# Altium footprint library 80-BabyCarBatControl_PCB.PcbLib: 30 footprints (part 2 of 2)
Each footprint in its own frame and in the unit in brackets; x right, y up, seen from the top. Pads: shape width x height; smd on the part's side, far side on the other; paste and mask are expansions set on the pad; w line width, h text height; cw(c..) or ccw(c..) is an arc to the next point about the centre after c.
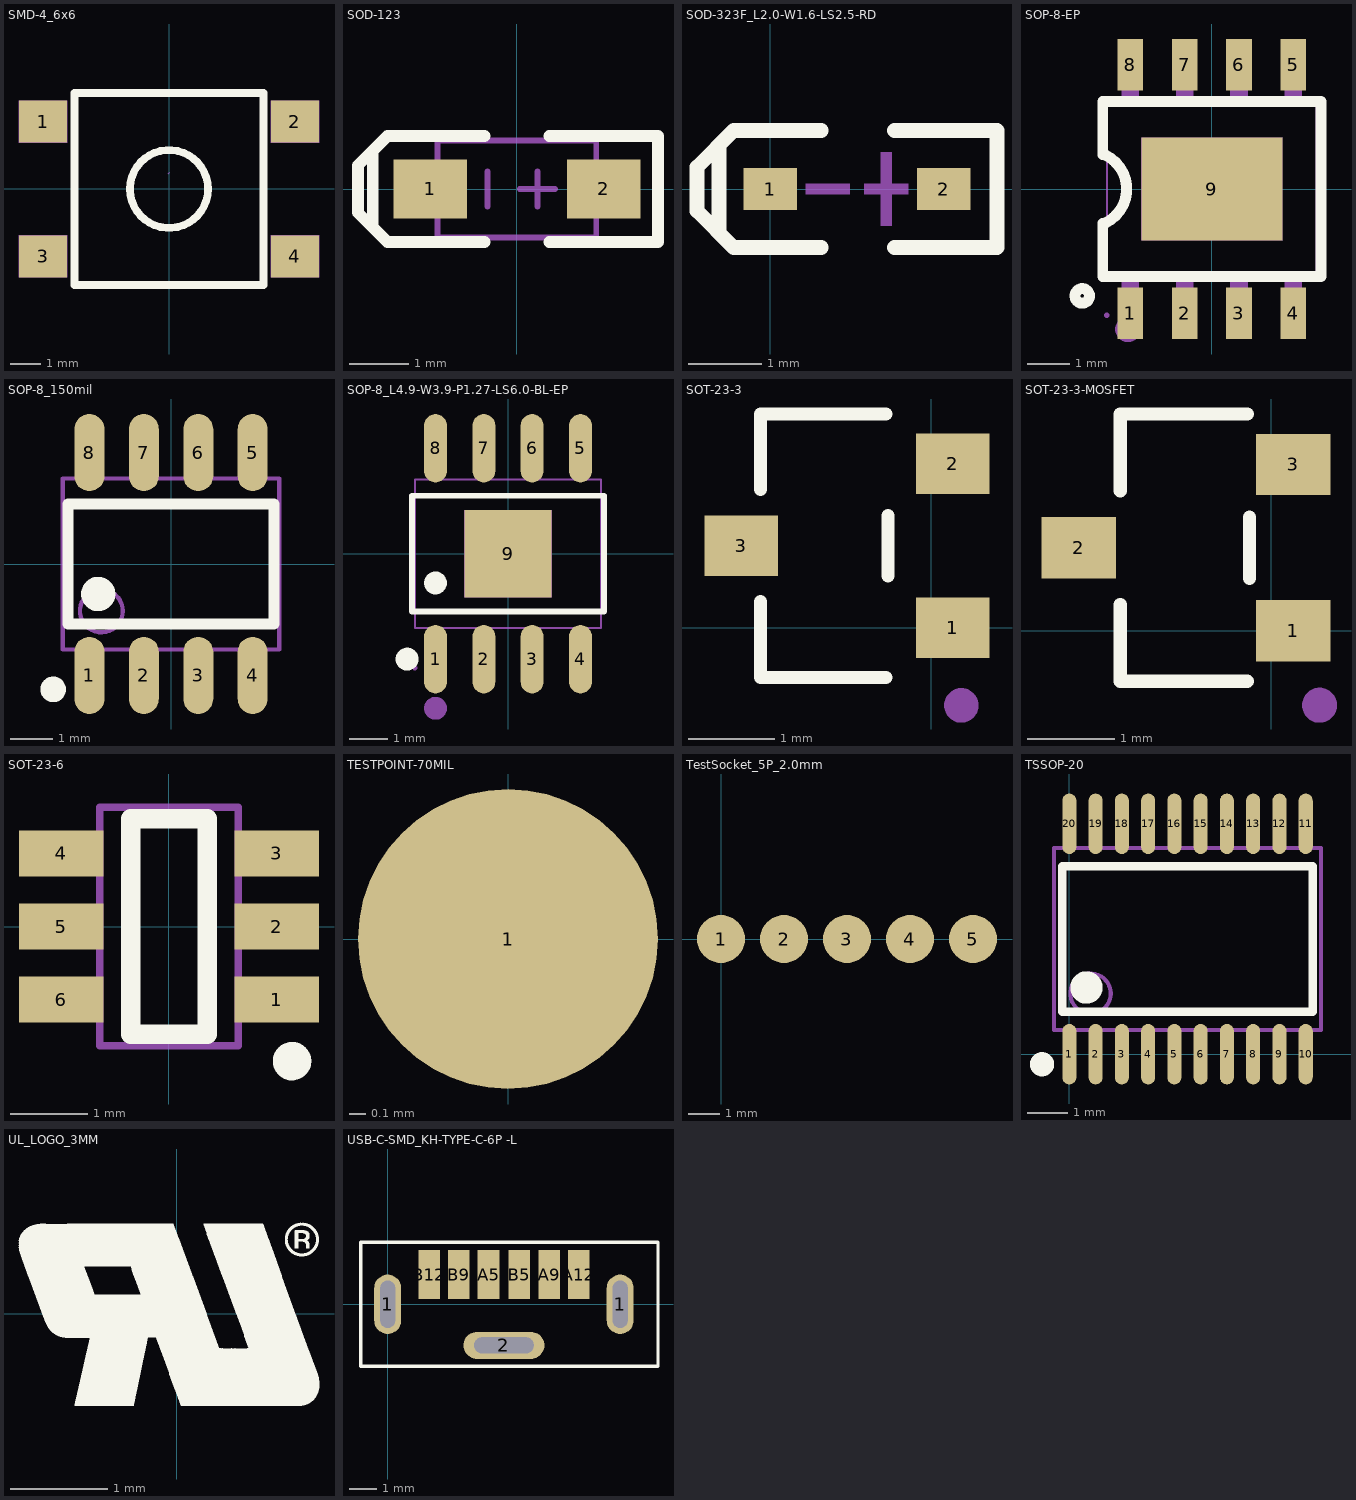
[diagram p1: the footprints below, top view; thin cyan lines are the x and y axes]

## SMD-4_6x6 [mm]
pads (4):
  rect 1.6x1.4 smd: 1(-4.2,2.249) 2(4.2,2.249) 3(-4.2,-2.249) 4(4.2,-2.249)
Top Overlay:
  circle w0.254: c0,0 r1.3
  lines w0.254: -3.15,-3.2 -3.15,3.2 3.15,3.2 3.15,-3.2 -3.15,-3.2
Mechanical 5:
  region: 3.4,-1.549 5,-1.549 5,-2.949 3.4,-2.949
  region: -5,-1.549 -3.4,-1.549 -3.4,-2.949 -5,-2.949
  region: 3.4,2.949 5,2.949 5,1.549 3.4,1.549
  region: -5,2.949 -3.4,2.949 -3.4,1.549 -5,1.549
Mechanical 15:
  lines w0.003: -0.026,0.502 0.025,0.553
3D body "SMD6X6.stp": height 5, standoff 0, extent -4.25,-3.3 4.25,3.3

## SOD-123 [mm]
pads (2):
  rect 1.25x1 smd: 1(-1.475,0) 2(1.475,0)
Top Overlay:
  lines w0.2: -2.45,-0.65 -2.45,0.65 ; -0.55,-0.9 -2.2,-0.9 -2.7,-0.4 -2.7,0.4 -2.2,0.9 -0.55,0.9 ; 0.55,-0.9 2.4,-0.9 2.4,0.9 0.55,0.9
Mechanical 13:
  lines w0.1: -1.35,-0.825 1.35,-0.825 1.35,0.825 -1.35,0.825 -1.35,-0.825
Mechanical 15:
  lines w0.1: -0.5,-0.3 -0.5,0.3 ; 0.05,0 0.65,0 ; 0.35,-0.3 0.35,0.3
3D body "SOD123.STEP": height 1.35, standoff 0, extent -1.85,-0.775 1.85,0.775

## SOD-323F_L2.0-W1.6-LS2.5-RD [mm]
pads (2):
  rect 0.73x0.58 smd: 1(0,0) 2(2.37,0)
Top Overlay:
  lines w0.2: -0.7,-0.6 -0.7,0.6 ; 0.7,-0.8 -0.5,-0.8 -1,-0.3 -1,0.3 -0.5,0.8 0.7,0.8 ; 1.7,-0.8 3.1,-0.8 3.1,0.8 1.7,0.8
Mechanical 15:
  region: 0.485,0.075 0.485,-0.075 1.085,-0.075 1.085,0.075
  region: 1.885,0.075 1.885,-0.075 1.285,-0.075 1.285,0.075
  region: 1.66,0.5 1.66,-0.5 1.51,-0.5 1.51,0.5
3D body "User Library-SOD-323F.STEP": height 0.79, standoff -0.08, extent -0.165,-0.686 2.535,0.664

## SOP-8-EP [mm]
pads (9):
  rect 0.6x1.2 smd: 1(-1.905,-2.908) 2(-0.635,-2.908) 3(0.635,-2.908) 4(1.905,-2.908) 5(1.905,2.908) 6(0.635,2.908) 7(-0.635,2.908) 8(-1.905,2.908)
  rect 3.3x2.4 smd: 9(0,0)
Top Overlay:
  circle w0.254: c-3.03,-2.5 r0.17
  lines w0.254: -2.55,-0.8 -2.55,-2.05 2.55,-2.05 2.55,2.05 -2.55,2.05 -2.55,0.8 ; -2.5,-0.8 ccw(c-2.875,0) -2.5,0.8
Mechanical 6:
  circle w0.3: c-1.96,-3.28 r0.15
Mechanical 15:
  region: -2.105,1.94 -2.105,2.31 -1.705,2.31 -1.705,1.94
  region: -2.105,2.3 -2.105,2.95 -1.705,2.95 -1.705,2.3
  region: -0.835,1.94 -0.835,2.31 -0.435,2.31 -0.435,1.94
  region: -0.835,2.3 -0.835,2.95 -0.435,2.95 -0.435,2.3
  region: 0.435,1.94 0.435,2.31 0.835,2.31 0.835,1.94
  region: 0.435,2.3 0.435,2.95 0.835,2.95 0.835,2.3
  region: 1.705,1.94 1.705,2.31 2.105,2.31 2.105,1.94
  region: 1.705,2.3 1.705,2.95 2.105,2.95 2.105,2.3
  region: -2.105,-2.31 -2.105,-1.94 -1.705,-1.94 -1.705,-2.31
  region: -2.105,-2.95 -2.105,-2.3 -1.705,-2.3 -1.705,-2.95
  region: -0.835,-2.31 -0.835,-1.94 -0.435,-1.94 -0.435,-2.31
  region: -0.835,-2.95 -0.835,-2.3 -0.435,-2.3 -0.435,-2.95
  region: 0.435,-2.31 0.435,-1.94 0.835,-1.94 0.835,-2.31
  region: 0.435,-2.95 0.435,-2.3 0.835,-2.3 0.835,-2.95
  region: 1.705,-2.31 1.705,-1.94 2.105,-1.94 2.105,-2.31
  region: 1.705,-2.95 1.705,-2.3 2.105,-2.3 2.105,-2.95
  region: 1.65,-1.2 -1.65,-1.2 -1.65,1.2 1.65,1.2
  region: -2.394,-2.95 -2.394,-2.925 -2.429,-2.89 -2.479,-2.89 -2.514,-2.925 -2.514,-2.95 -2.514,-2.975 -2.479,-3.01 -2.429,-3.01 -2.394,-2.975
  lines w0.051: -2.45,-1.95 2.45,-1.95 2.45,1.95 -2.45,1.95 -2.45,-1.95
3D body "User Library-SOIC-8-150.STEP": height 1.75, standoff 0, extent -2.5,-3.1 2.5,3.1

## SOP-8_150mil [mm]
pads (8):
  oval 0.7x1.8 smd: 1(-1.905,-2.6) 2(-0.635,-2.6) 3(0.635,-2.6) 4(1.905,-2.6) 5(1.905,2.6) 6(0.635,2.6) 7(-0.635,2.6) 8(-1.905,2.6)
Top Overlay:
  circle w0.3: c-2.75,-2.925 r0.15
  circle w0.4: c-1.7,-0.7 r0.2
  lines w0.254: -2.4,-1.4 2.4,-1.4 2.4,1.4 -2.4,1.4 -2.4,-1.4
Mechanical 13:
  circle w0.1: c-1.625,-1.095 r0.5
  lines w0.1: -2.525,-1.995 2.525,-1.995 2.525,1.995 -2.525,1.995 -2.525,-1.995
3D body "User Library-SOIC-8-150.STEP": height 1.75, standoff 0, extent -2.5,-3.1 2.5,3.1

## SOP-8_L4.9-W3.9-P1.27-LS6.0-BL-EP [mm]
pads (9):
  oval 0.6x1.8 smd: 1(-1.905,-2.772) 2(-0.635,-2.772) 3(0.635,-2.772) 4(1.905,-2.772) 5(1.905,2.772) 6(0.635,2.772) 7(-0.635,2.772) 8(-1.905,2.772)
  rect 2.29x2.29 smd: 9(0,0)
Top Overlay:
  circle w0.3: c-1.905,-0.769 r0.15
  circle w0.3: c-2.652,-2.772 r0.15
  lines w0.152: -2.526,-1.521 -2.526,1.521 2.526,1.521 2.526,-1.521 -2.526,-1.521
Mechanical 6:
  circle w0.3: c-1.905,-4.064 r0.15
Mechanical 15:
  region: -2.39,-3 -2.39,-2.975 -2.425,-2.94 -2.475,-2.94 -2.51,-2.975 -2.51,-3 -2.51,-3.025 -2.475,-3.06 -2.425,-3.06 -2.39,-3.025
  region: -2.115,-3 -2.115,-2.165 -1.695,-2.165 -1.695,-3
  region: -2.115,-2.175 -2.115,-1.94 -1.695,-1.94 -1.695,-2.175
  region: -0.845,-3 -0.845,-2.165 -0.425,-2.165 -0.425,-3
  region: -0.845,-2.175 -0.845,-1.94 -0.425,-1.94 -0.425,-2.175
  region: 0.425,-3 0.425,-2.165 0.845,-2.165 0.845,-3
  region: 0.425,-2.175 0.425,-1.94 0.845,-1.94 0.845,-2.175
  region: 1.695,-3 1.695,-2.165 2.115,-2.165 2.115,-3
  region: 1.695,-2.175 1.695,-1.94 2.115,-1.94 2.115,-2.175
  region: -2.115,3 -2.115,2.165 -1.695,2.165 -1.695,3
  region: -2.115,2.175 -2.115,1.94 -1.695,1.94 -1.695,2.175
  region: -0.845,3 -0.845,2.165 -0.425,2.165 -0.425,3
  region: -0.845,2.175 -0.845,1.94 -0.425,1.94 -0.425,2.175
  region: 0.425,3 0.425,2.165 0.845,2.165 0.845,3
  region: 0.425,2.175 0.425,1.94 0.845,1.94 0.845,2.175
  region: 1.695,3 1.695,2.165 2.115,2.165 2.115,3
  region: 1.695,2.175 1.695,1.94 2.115,1.94 2.115,2.175
  region: -1.145,-1.145 -1.145,1.145 1.145,1.145 1.145,-1.145
  lines w0.051: -2.45,-1.95 -2.45,1.95 2.45,1.95 2.45,-1.95 -2.45,-1.95
3D body "User Library-SOIC-8-150.STEP": height 1.75, standoff 0, extent -2.5,-3.1 2.5,3.1

## SOT-23-3 [mm]
pads (3):
  rect 0.85x0.7 smd: 1(0.25,0) 2(0.25,1.9) 3(-2.2,0.95)
Top Overlay:
  lines w0.152: -1.976,0.3 -1.976,-0.576 -0.524,-0.576 ; -1.976,1.6 -1.976,2.476 -0.524,2.476 ; -0.5,0.6 -0.5,1.3
Mechanical 15:
  circle w0.2: c0.35,-0.9 r0.1
3D body "CircuitWorks-SOT-23.STEP": height 1.08, standoff -0.02, extent -2.5,-0.55 0,2.45

## SOT-23-3-MOSFET [mm]
pads (3):
  rect 0.85x0.7 smd: 1(0.25,0) 2(-2.2,0.95) 3(0.25,1.9)
Top Overlay:
  lines w0.152: -1.726,0.3 -1.726,-0.576 -0.274,-0.576 ; -1.726,1.6 -1.726,2.476 -0.274,2.476 ; -0.25,0.6 -0.25,1.3
Mechanical 15:
  circle w0.2: c0.55,-0.85 r0.1
3D body "CircuitWorks-SOT-23.STEP": height 1.08, standoff -0.02, extent -2.25,-0.55 0.25,2.45

## SOT-23-6 [mm]
height 1.25
pads (6):
  rect 1.1x0.6 smd: 1(1.4,-0.95) 2(1.4,0) 3(1.4,0.95) 4(-1.4,0.95) 5(-1.4,0) 6(-1.4,-0.95)
Top Overlay:
  circle w0.25: c1.6,-1.75 r0.125
  lines w0.254: -0.5,-1.4 -0.5,1.4 0.5,1.4 0.5,-1.4 -0.5,-1.4
Mechanical 13:
  lines w0.1: -0.9,-1.55 -0.9,1.55 0.9,1.55 0.9,-1.55 -0.9,-1.55
3D body "User Library-SOT-23-6.STEP": height 1.09, standoff 0, extent -1.207,-1.397 1.219,1.397

## TESTPOINT-70MIL [mil]
pads (1):
  round 70 smd: 1(0,0)

## TestSocket_5P_2.0mm [mil]
pads (5):
  round 60 smd: 1(0,0) 2(78.74,0) 3(157.48,0) 4(236.22,0) 5(314.96,0)

## TSSOP-20 [mm]
pads (20):
  oval 0.35x1.5 smd: 1(0,0) 2(0.65,0) 3(1.3,0) 4(1.95,0) 5(2.6,0) 6(3.25,0) 7(3.9,0) 8(4.55,0) 9(5.2,0) 10(5.85,0) 11(5.85,5.7) 12(5.2,5.7) 13(4.55,5.7) 14(3.9,5.7) 15(3.25,5.7) 16(2.6,5.7) 17(1.95,5.7) 18(1.3,5.7) 19(0.65,5.7) 20(0,5.7)
Top Overlay:
  circle w0.4: c0.425,1.65 r0.2
  circle w0.3: c-0.675,-0.25 r0.15
  lines w0.2: -0.175,1.05 6.025,1.05 6.025,4.65 -0.175,4.65 -0.175,1.05
Mechanical 13:
  circle w0.1: c0.525,1.5 r0.5
  lines w0.1: -0.375,0.6 6.225,0.6 6.225,5.1 -0.375,5.1 -0.375,0.6
3D body "User Library-TSSOP20_TP.STEP": height 1.1, standoff -0.09, extent -0.225,-0.2 6.275,6.08

## UL_LOGO_3MM [mm]
Top Overlay:
  drawing of 1016 lines, arcs and shapes, not listed

## USB-C-SMD_KH-TYPE-C-6P -L [mm]
pads (9):
  oval 1x2.2 hole 0.55 slot 1.75 at 90 deg: 1(0,0) 1(8.6,0)
  oval 3x1 hole 0.6 slot 2.2 at 0 deg: 2(4.3,-1.52)
  rect 0.8x1.8 smd: A5(3.73,1.1) A9(5.97,1.1) A12(7.07,1.1) B5(4.87,1.1) B9(2.63,1.1) B12(1.53,1.1)
Top Overlay:
  lines w0.127: -1,-2.3 -1,2.3 10,2.3 10,-2.3 -1,-2.3